# EAGLE library part PINHD-2X35 (library puggleboard)
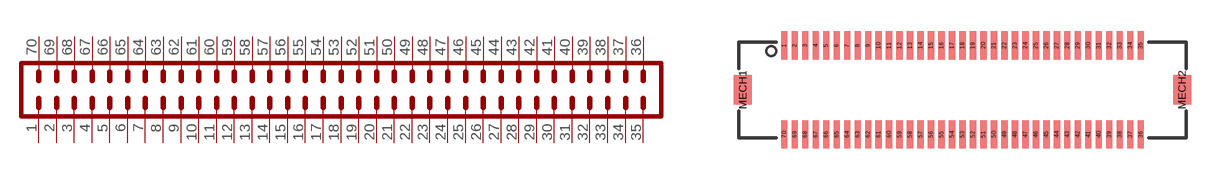
[diagram p23: symbol with the pads of JMD70; footprint JMD70]

Designator prefix -

## PINHD-2X35_JMD70  [JMD70]
1  1
2  2
3  3
4  4
5  5
6  6
7  7
8  8
9  9
10  10
11  11
12  12
13  13
14  14
15  15
16  16
17  17
18  18
19  19
20  20
21  21
22  22
23  23
24  24
25  25
26  26
27  27
28  28
29  29
30  30
31  31
32  32
33  33
34  34
35  35
36  36
37  37
38  38
39  39
40  40
41  41
42  42
43  43
44  44
45  45
46  46
47  47
48  48
49  49
50  50
51  51
52  52
53  53
54  54
55  55
56  56
57  57
58  58
59  59
60  60
61  61
62  62
63  63
64  64
65  65
66  66
67  67
68  68
69  69
70  70

## Footprint JMD70 (pad centres in mm)
smd 0.3 x 1.35: 1 -8.805,2.125; 2 -8.305,2.125; 3 -7.805,2.125; 4 -7.305,2.125; 5 -6.805,2.125; 6 -6.305,2.125; 7 -5.805,2.125; 8 -5.305,2.125; 9 -4.805,2.125; 10 -4.305,2.125; 11 -3.805,2.125; 12 -3.305,2.125; 13 -2.805,2.125; 14 -2.305,2.125; 15 -1.805,2.125; 16 -1.305,2.125; 17 -0.805,2.125; 18 -0.305,2.125; 19 0.195,2.125; 20 0.695,2.125; 21 1.195,2.125; 22 1.695,2.125; 23 2.195,2.125; 24 2.695,2.125; 25 3.195,2.125; 26 3.695,2.125; 27 4.195,2.125; 28 4.695,2.125; 29 5.195,2.125; 30 5.695,2.125; 31 6.195,2.125; 32 6.695,2.125; 33 7.195,2.125; 34 7.695,2.125; 35 8.195,2.125; 36 8.195,-2.125; 37 7.695,-2.125; 38 7.195,-2.125; 39 6.695,-2.125; 40 6.195,-2.125; 41 5.695,-2.125; 42 5.195,-2.125; 43 4.695,-2.125; 44 4.195,-2.125; 45 3.695,-2.125; 46 3.195,-2.125; 47 2.695,-2.125; 48 2.195,-2.125; 49 1.695,-2.125; 50 1.195,-2.125; 51 0.695,-2.125; 52 0.195,-2.125; 53 -0.305,-2.125; 54 -0.805,-2.125; 55 -1.305,-2.125; 56 -1.805,-2.125; 57 -2.305,-2.125; 58 -2.805,-2.125; 59 -3.305,-2.125; 60 -3.805,-2.125; 61 -4.305,-2.125; 62 -4.805,-2.125; 63 -5.305,-2.125; 64 -5.805,-2.125; 65 -6.305,-2.125; 66 -6.805,-2.125; 67 -7.305,-2.125; 68 -7.805,-2.125; 69 -8.305,-2.125; 70 -8.805,-2.125
smd 0.85 x 1.4: MECH1 -10.78,0; MECH2 10.17,0